# Altium schematic symbol library latch_sdc_schlib.SchLib: 10 symbols
Pins are listed as number, name and electrical type; pins without a type are passive.

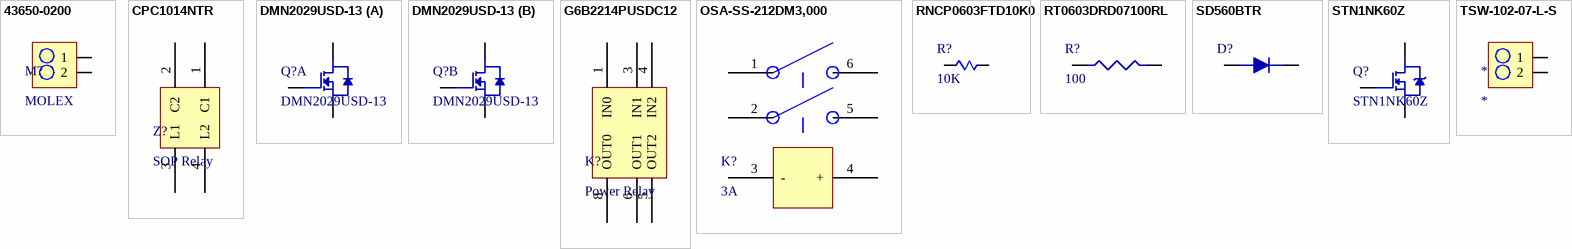
[diagram p0: symbols 43650-0200 to TSW-102-07-L-S]

## 43650-0200
designator M?, comment MOLEX
MOLEX - 43650-0200 - CONNECTOR, HEADER, 2POS, 1ROW, 3MM; Contact Resistance: 10mR; Number of Positions: 2; Connector Type: Plug,Socket; Current Rating: 5A; Voltage Rating (AC): 250V; Voltage Rating: 600V; Gender: Male; Insulation Resistance: 1GR; Glow Wire Compliant: Compliant; Supplier 1: Avnet; Manufacturer: Molex; Manufacturer Part Number: 43650-0200; Stock 1: 0; Pricing 1: 1=0.39494, 10=0.36394, 25=0.34123, 50=0.33065, 100=0.32119 (USD); Mount: Through Hole; Contact Plating: Tin; Contact Material: Brass,Tin; Color: Black; Housing Color: Black; Housing Material: Thermoplastic; Min Operating Temperature: -40°C; Max Operating Temperature: 105°C; Number of Rows: 1; Packaging: Tray; Termination: Solder; Number of Contacts: 2; Orientation: Right Angle; Package Quantity: 3927; Working Voltage: 250V; Number of Circuits: 2; Voltage Rating (DC): 250V; Length: 9.65mm; Height: 5.57mm; Pitch: 3mm; Depth: 9.9mm; Radiation Hardening: No; Flammability Rating: UL94 V-0; REACH SVHC: Unknown; Halogen Free: Low Halogen; Lead Free: Lead Free; ComponentLink1URL: http://www.molex.com/webdocs/datasheets/pdf/en-us/0436500200_PCB_HEADERS.pdf?src-supplier=Avnet; ComponentLink1Description: http://www.molex.com/webdocs/datasheets/pdf/en-us/0436500200_PCB_HEADERS.pdf?src-supplier=Avnet; ComponentLink2URL: http://www.onlinecomponents.com/productFiles/mf-MOL/1029720436500200_pcb_headers.pdf?src-supplier=Onlinecomponents.com; ComponentLink2Description: http://www.onlinecomponents.com/productFiles/mf-MOL/1029720436500200_pcb_headers.pdf?src-supplier=Onlinecomponents.com; ComponentLink3URL: http://www.farnell.com/datasheets/1933359.pdf?src-supplier=Element14; ComponentLink3Description: http://www.farnell.com/datasheets/1933359.pdf?src-supplier=Element14; ComponentLink4URL: https://www.distrelec.biz/Web/Downloads/20/66/04402066.pdf?mime=application%2Fpdf&src-supplier=Distrelec; ComponentLink4Description: https://www.distrelec.biz/Web/Downloads/20/66/04402066.pdf?mime=application%2Fpdf&src-supplier=Distrelec; ComponentLink5URL: http://www.jameco.com/Jameco/Products/ProdDS/884053.pdf?src-supplier=Jameco; ComponentLink5Description: http://www.jameco.com/Jameco/Products/ProdDS/884053.pdf?src-supplier=Jameco; ComponentLink6URL: http://www.mouser.com/ds/2/276/0436500200_PCB_HEADERS-148844.pdf?src-supplier=Mouser; ComponentLink6Description: http://www.mouser.com/ds/2/276/0436500200_PCB_HEADERS-148844.pdf?src-supplier=Mouser; ComponentLink7URL: http://uk.rs-online.com/webdocs/13c3/0900766b813c3b7d.pdf?src-supplier=RSComponents; ComponentLink7Description: http://uk.rs-online.com/webdocs/13c3/0900766b813c3b7d.pdf?src-supplier=RSComponents; ComponentLink8URL: http://www.molex.com/webdocs/datasheets/pdf/en-us/0436500200_PCB_HEADERS.pdf?src-supplier=Avnet+Europe; ComponentLink8Description: http://www.molex.com/webdocs/datasheets/pdf/en-us/0436500200_PCB_HEADERS.pdf?src-supplier=Avnet+Europe; ComponentLink9URL: http://www.farnell.com/datasheets/1709823.pdf?src-supplier=Element14; ComponentLink9Description: http://www.farnell.com/datasheets/1709823.pdf?src-supplier=Element14; Supplier Part Number 1: 0436500200
footprint MOLEX 1
pins: 1, 2

## CPC1014NTR
designator Z?, comment SOP Relay
SSR RELAY SPST-NO 400MA 0-60V; Manufacturer: Ixys Clare; Manufacturer Part Number: CPC1014NTR; Throw Configuration: SPST; On-State Resistance: 2R; Max Output Voltage: 60V; Isolation Voltage: 1.5kV; Max Input Current: 50mA; Supplier 1: Digi-Key; Stock 1: 94881; Pricing 1: 1=1.77, 10=1.602, 25=1.43, 100=1.287, 250=1.144, 500=1.001, 1000=0.8294 (USD); Mount: Surface Mount; Case/Package: SOP; Number of Pins: 4; Min Operating Temperature: -40°C; Max Operating Temperature: 85°C; Packaging: Tape and Reel; Output Current: 400mA; Max Output Current: 400mA; Package Quantity: 1; Termination: Gull Wing; Load Current: 400mA; Input Current: 50mA; Relay Type: Relay; Length: 4.089mm; Height: 2.184mm; Width: 3.8mm; Radiation Hardening: No; Lead Free: Lead Free; ComponentLink1URL: http://www.clare.com/home/pdfs.nsf/www/CPC1014N.pdf/$file/CPC1014N.pdf?src-supplier=Future+Electronics; ComponentLink1Description: http://www.clare.com/home/pdfs.nsf/www/CPC1014N.pdf/$file/CPC1014N.pdf?src-supplier=Future+Electronics; ComponentLink2URL: http://www.ixysic.com/home/pdfs.nsf/www/CPC1014N.pdf/$file/CPC1014N.pdf?src-supplier=Digi-Key; ComponentLink2Description: http://www.ixysic.com/home/pdfs.nsf/www/CPC1014N.pdf/$file/CPC1014N.pdf?src-supplier=Digi-Key; Supplier Part Number 1: CLA314DKR-ND
footprint TSOP254P610X114-4N (TSOP, 4-Leads, Body 4.09x3.81mm, Pitch 2.54mm, IPC Medium Density)
pins: 1 C1, 2 C2, 3 L1, 4 L2

## DMN2029USD-13
designator Q?
MOSFET 2N-CH 20V 5.8A 8SO; Manufacturer: Diodes; Rds On Max: 25mR; Input Capacitance: 1.171nF; Rise Time: 33.3ns; Max Power Dissipation: 1.2W; Turn-On Delay Time: 16.5ns; Turn-Off Delay Time: 119.3ns; Fall Time: 53.5ns; Drain to Source Resistance: 35mR; Gate to Source Voltage (Vgs): 8V; FET Type: 2 N-Channel; Supplier 1: Digi-Key; Supplier Part Number 1: DMN2029USD-13DICT-ND; Manufacturer Part Number: DMN2029USD-13; Stock 1: 1364; Pricing 1: 1=0.47, 10=0.397, 100=0.2974, 500=0.21812, 1000=0.16854 (USD); Mount: Surface Mount; Case/Package: SO; Number of Pins: 8; Min Operating Temperature: -55°C; Max Operating Temperature: 150°C; Package Quantity: 2500; Packaging: Tape and Reel; Continuous Drain Current (ID): 5.8A; Drain to Source Voltage (Vdss): 20V; Length: 4.95mm; Height: 1.5mm; Width: 3.95mm; Radiation Hardening: No; REACH SVHC: No SVHC; ComponentLink1URL: https://www.diodes.com/assets/Datasheets/DMN2029USD.pdf?src-supplier=Digi-Key; ComponentLink1Description: https://www.diodes.com/assets/Datasheets/DMN2029USD.pdf?src-supplier=Digi-Key
footprint SOIC127P600X175-8N (SOIC, 8-Leads, Body 4.90x3.90mm, Pitch 1.27mm, IPC Medium Density)
part A pins: 1 S1, 2 G1, 8 D1
part B pins: 3 S2, 4 G2, 5 D2

## G6B2214PUSDC12
designator K?, comment Power Relay
RELAY GEN PURPOSE DPST 5A 12V; Manufacturer: Omron; Manufacturer Part Number: G6B2214PUSDC12; Coil Current: 25mA; Operate Time: 10ms; Coil Power: 300mW; Coil Resistance: 480R; Relay Type: General Purpose; Coil Type: Non-Latching; Voltage Rating (AC): 380V; Max Voltage Rating (DC): 125V; Approvals: UL,CSA; Supplier 1: Newark; Stock 1: 0; Pricing 1: 1=5.58, 5=5.37, 10=5.17, 25=4.96, 50=4.8, 100=4.64, 250=4.47 (USD); Mount: Through Hole,PCB; Case/Package: DIP; Number of Pins: 6; Weight: 4.5g; Contact Material: Silver,Cadmium; Min Operating Temperature: -25°C; Max Operating Temperature: 70°C; Packaging: Bulk; Contact Current Rating: 5A; Throw Configuration: DPST; Termination: PC Pin; Release Time: 10ms; Coil Voltage (DC): 12V; Package Quantity: 100; Current Rating: 5A; Max Voltage Rating (AC): 380V; Max Current Rating: 5A; Voltage Rating (DC): 125V; Length: 20mm; Depth: 11mm; Radiation Hardening: No; ComponentLink1URL: http://www.mouser.com/ds/2/307/en-g6b-230838.pdf?src-supplier=Mouser; ComponentLink1Description: http://www.mouser.com/ds/2/307/en-g6b-230838.pdf?src-supplier=Mouser; ComponentLink2URL: https://www.verical.com/server-webapp/html/getDatasheet?partID=485879&src-supplier=Verical; ComponentLink2Description: https://www.verical.com/server-webapp/html/getDatasheet?partID=485879&src-supplier=Verical; ComponentLink3URL: https://omronfs.omron.com/en_US/ecb/products/pdf/en-g6b.pdf?src-supplier=Digi-Key; ComponentLink3Description: https://omronfs.omron.com/en_US/ecb/products/pdf/en-g6b.pdf?src-supplier=Digi-Key; Supplier Part Number 1: 13AC8848
footprint RELAY_FOOTPRINT
pins: 1 IN0, 3 IN1, 4 IN2, 5 OUT2, 6 OUT1, 8 OUT0

## OSA-SS-212DM3,000
designator K?, comment 3A
RELAY TE CONNECTIVITY / OEG         OSA-SS-212DM3,000             General Purpose Relay, OSA Series, Power, Non Latching, DPST-NO, 12 VDC, 3 A; Coil Current: 45mA; Throw Configuration: DPST; Operate Time: 20ms; Release Time: 10ms; Coil Power: 600mW; Coil Resistance: 270R; Coil Type: Non-Latching; Coil Voltage (DC): 12V; Contact Voltage Rating (AC): 240V; Supplier 1: Digi-Key; Supplier Part Number 1: OSA-SS-212DM3,000-ND; Manufacturer: TE Connectivity; Manufacturer Part Number: OSA-SS-212DM3,000; Stock 1: 2623; Pricing 1: 1=2.54, 10=2.385, 25=2.1204, 50=2.0142, 100=1.9083, 250=1.69624, 500=1.59022, 1000=1.48421, 5000=1.4312 (USD); Mount: Through Hole; Weight: 13g; Contact Material: Silver; Min Operating Temperature: -30°C; Max Operating Temperature: 60°C; Package Quantity: 1000; Packaging: Box; Contact Current Rating: 3A; Termination: PCB; Relay Type: General Purpose; Length: 24.4mm; Height: 0.976inch; Width: 12.9mm; REACH SVHC: Unknown; ELV: Compliant; ComponentLink1URL: http://www.farnell.com/datasheets/1652820.pdf?src-supplier=Farnell; ComponentLink1Description: http://www.farnell.com/datasheets/1652820.pdf?src-supplier=Farnell; ComponentLink2URL: http://www.farnell.com/cad/1652820.pdf?src-supplier=Element14; ComponentLink2Description: http://www.farnell.com/cad/1652820.pdf?src-supplier=Element14; ComponentLink3URL: http://www.te.com/commerce/DocumentDelivery/DDEController?Action=srchrtrv&DocNm=5-1419124-6&DocType=Customer+Drawing&DocLang=English&src-supplier=Digi-Key; ComponentLink3Description: http://www.te.com/commerce/DocumentDelivery/DDEController?Action=srchrtrv&DocNm=5-1419124-6&DocType=Customer+Drawing&DocLang=English&src-supplier=Digi-Key
footprint RELAY02_FOOTPRINT
pins: 1, 2, 3 -, 4 +, 5, 6

## RNCP0603FTD10K0
designator R?, comment 10K
RES 10K OHM 1% 1/8W 0603; Manufacturer: Stackpole Electronics; Manufacturer Part Number: RNCP0603FTD10K0; Resistance: 10kR; Max Power Dissipation: 125mW; Temperature Coefficient: 100ppm/°C; Supplier 1: Digi-Key; Stock 1: 85524; Pricing 1: 1=0.1, 10=0.067, 100=0.0273, 1000=0.01224, 2500=0.01063 (USD); Mount: Surface Mount; Case/Package: 0603; Case Code (Metric): 1608; Case Code (Imperial): 0603; Contact Plating: Tin,Matte; Min Operating Temperature: -55°C; Max Operating Temperature: 155°C; Packaging: Tape and Reel; Tolerance: 1%; Composition: Thin Film; Number of Terminations: 2; Features: Moisture Resistant,Anti-Sulfur; Length: 0.059inch; Height: 0.02inch; Width: 0.031inch; Radiation Hardening: No; Lead Free: Lead Free; Supplier Part Number 1: RNCP0603FTD10K0DKR-ND
footprint 10KOHM (Chip Resistor, 2-Leads, Body 1.50x0.80mm, IPC Medium Density)
pins: 1, 2

## RT0603DRD07100RL
designator R?, comment 100
RES SMD 100 OHM 0.5% 1/10W 0603; Manufacturer: Yageo; Manufacturer Part Number: RT0603DRD07100RL; Resistance: 100R; Power Rating: 100mW; Temperature Coefficient: 25ppm/°C; Voltage Rating (DC): 50V; Supplier 1: Arrow; Stock 1: 1979; Pricing 1: 1=0.19, 10=0.1159, 25=0.1043, 100=0.038, 250=0.0342, 500=0.0308, 1000=0.0225 (USD); Case/Package: 0603; Case Code (Metric): 1608; Case Code (Imperial): 0603; Min Operating Temperature: -55°C; Max Operating Temperature: 155°C; Tolerance: 0.5%; Package Quantity: 1; Packaging: Tape and Reel; Composition: Thin Film; Number of Terminations: 2; Military Standard: Not; Max Power Dissipation: 100mW; Features: Moisture Resistant; Length: 0.063inch; Height: 0.022inch; Width: 0.031inch; Depth: 0.8mm; Lead Free: Lead Free; Supplier Part Number 1: RT0603DRD07100RL
footprint 100OHM (Chip Resistor, 2-Leads, Body 1.60x0.80mm, IPC Medium Density)
pins: 1, 2

## SD560BTR
designator D?
DIODE GEN PURP 600V 5A SMB; Manufacturer: SMC; Manufacturer Part Number: SD560BTR; Supplier 1: Digi-Key; Stock 1: 109105; Pricing 1: 1=0.5, 10=0.358, 100=0.2106, 500=0.11922, 1000=0.0914 (USD); Mount: Surface Mount; Case/Package: SMB; Packaging: Tape and Reel; Max Reverse Voltage (DC): 600V; Average Rectified Current: 5A; Supplier Part Number 1: 1655-1530-1-ND
footprint DIOM4436X26N (Molded Diode, 2-Leads, Body 4.38x3.62mm, IPC Medium Density)
pins: 1, 2

## STN1NK60Z
designator Q?
Trans MOSFET N-CH 600V 0.3A 4-Pin(3+Tab) SOT-223 T/R; Manufacturer: STMicroelectronics; Rds On Max: 15R; Input Capacitance: 94pF; Rise Time: 5ns; Number of Elements: 1; Max Power Dissipation: 3.3W; Continuous Drain Current (ID): 300mA; Fall Time: 18ns; Turn-Off Delay Time: 13ns; Turn-On Delay Time: 5.5ns; Threshold Voltage: 3.75V; Element Configuration: Single; Gate to Source Voltage (Vgs): 30V; Current Rating: 250mA; Supplier 1: Future Electronics; Manufacturer Part Number: STN1NK60Z; Stock 1: 1620; Pricing 1: 1=0.325, 100=0.27, 250=0.26, 500=0.255, 1500=0.245 (USD); Mount: Surface Mount; Case/Package: SOT-223; Number of Pins: 4; Weight: 0.01lb; Min Operating Temperature: -55°C; Max Operating Temperature: 150°C; Package Quantity: 4000; Packaging: Tape and Reel; Drain to Source Voltage (Vdss): 600V; Drain to Source Breakdown Voltage: 600V; Power Dissipation: 3.3W; Drain to Source Resistance: 15R; Voltage Rating (DC): 600V; On-State Resistance: 15R; Length: 6.5mm; Height: 1.8mm; Width: 3.5mm; Radiation Hardening: No; REACH SVHC: No SVHC; Lead Free: Lead Free; ComponentLink1URL: http://www.farnell.com/datasheets/1868794.pdf?src-supplier=Element14; ComponentLink1Description: http://www.farnell.com/datasheets/1868794.pdf?src-supplier=Element14; ComponentLink2URL: http://www.st.com/web/en/resource/technical/document/datasheet/CD00003347.pdf?src-supplier=Future+Electronics; ComponentLink2Description: http://www.st.com/web/en/resource/technical/document/datasheet/CD00003347.pdf?src-supplier=Future+Electronics; ComponentLink3URL: http://www.mouser.com/ds/2/389/CD00003347-486150.pdf?src-supplier=Mouser; ComponentLink3Description: http://www.mouser.com/ds/2/389/CD00003347-486150.pdf?src-supplier=Mouser; ComponentLink4URL: https://www.verical.com/server-webapp/html/getDatasheet?partID=74454&src-supplier=Verical; ComponentLink4Description: https://www.verical.com/server-webapp/html/getDatasheet?partID=74454&src-supplier=Verical; Supplier Part Number 1: STN1NK60Z-CUTT
footprint SOT230P700X180-4N (SOT223, 4-Leads, Body 6.40x7.00mm (avg), Pitch 2.30mm, IPC Medium Density)
pins: 1, 3, 4

## TSW-102-07-L-S
designator *
CONN HEADER VERT 2POS 2.54MM; Manufacturer: Samtec; Manufacturer Part Number: TSW-102-07-L-S; Max Current Rating: 7.6A; Number of Positions: 2; Max Voltage Rating (AC): 550V; Gender: Male; Connector Type: Male Pin; Supplier 1: Digi-Key; Stock 1: 176; Pricing 1: 1=0.22, 10=0.211, 25=0.1796, 50=0.1572, 100=0.146, 250=0.12916, 500=0.12356 (USD); Mount: Through Hole; Contact Material: Bronze; Contact Plating: Gold; Color: Black; Housing Color: Black; Housing Material: Polyester; Min Operating Temperature: -55°C; Max Operating Temperature: 125°C; Number of Rows: 1; Packaging: Bulk; Termination: Solder; Number of Contacts: 2; Orientation: Straight; Current Rating: 7.6A; Voltage Rating: 550V; Package Quantity: 1; Length: 5.08mm; Pitch: 2.54mm; Contact Mating Length: 0.23inch; Depth: 2.54mm; Width: 2.54mm; Radiation Hardening: No; REACH SVHC: No SVHC; Lead Free: Lead Free; ComponentLink1URL: http://suddendocs.samtec.com/prints/tsw-xxx-xx-x-x-xx-xxx-footprint.pdf?src-supplier=Avnet; ComponentLink1Description: http://suddendocs.samtec.com/prints/tsw-xxx-xx-x-x-xx-xxx-footprint.pdf?src-supplier=Avnet; ComponentLink2URL: http://suddendocs.samtec.com/prints/tsw-xxx-xx-x-x-xx-xxx-footprint.pdf?src-supplier=Avnet+Europe; ComponentLink2Description: http://suddendocs.samtec.com/prints/tsw-xxx-xx-x-x-xx-xxx-footprint.pdf?src-supplier=Avnet+Europe; ComponentLink3URL: http://suddendocs.samtec.com/prints/tsw-xxx-xx-x-x-xx-xxx-footprint.pdf?src-supplier=Digi-Key; ComponentLink3Description: http://suddendocs.samtec.com/prints/tsw-xxx-xx-x-x-xx-xxx-footprint.pdf?src-supplier=Digi-Key; ComponentLink4URL: http://www.farnell.com/datasheets/1596380.pdf?src-supplier=Element14; ComponentLink4Description: http://www.farnell.com/datasheets/1596380.pdf?src-supplier=Element14; Supplier Part Number 1: SAM1031-02-ND
footprint TSW-102-XX-X-S (2.54mm pitch, 2 pin, terminal strip)
pins: 1, 2